# Altium footprint library LCD_LCD2X16.PcbLib: 1 footprints
Each footprint in its own frame and in the unit in brackets; x right, y up, seen from the top. Pads: shape width x height; smd on the part's side, far side on the other; paste and mask are expansions set on the pad; w line width, h text height; cw(c..) or ccw(c..) is an arc to the next point about the centre after c.
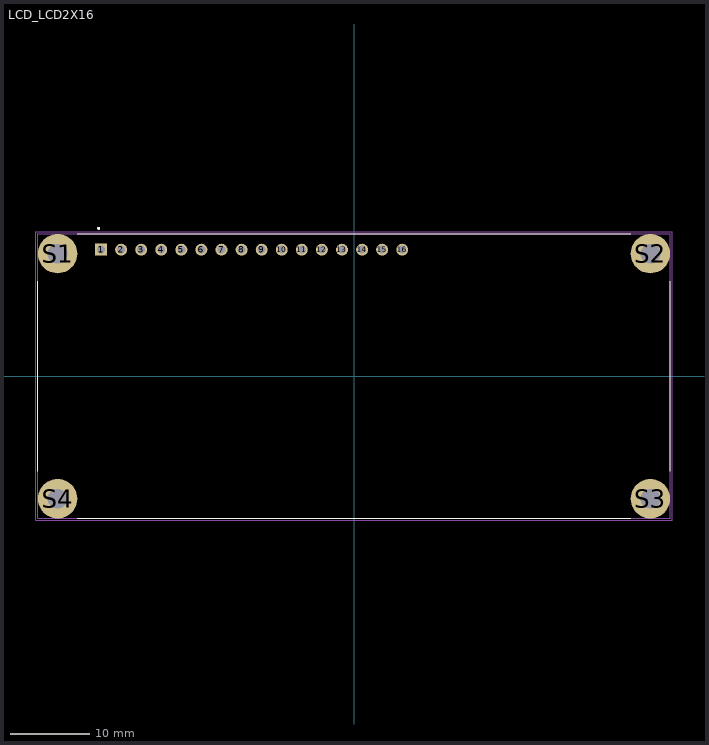
[diagram p0: the footprint, top view; thin cyan lines are the x and y axes]

## LCD_LCD2X16 [mm]
pads (20):
  rect 1.508x1.508 hole 1: 1(-32,16)
  round 1.508 hole 1: 2(-29.46,16) 3(-26.92,16) 4(-24.38,16) 5(-21.84,16) 6(-19.3,16) 7(-16.76,16) 8(-14.22,16) 9(-11.68,16) 10(-9.14,16) 11(-6.6,16) 12(-4.06,16) 13(-1.52,16) 14(1.02,16) 15(3.56,16) 16(6.1,16)
  round 5 hole 2.5: S1(-37.5,15.5) S2(37.5,15.5) S3(37.5,-15.5) S4(-37.5,-15.5)
Top Overlay:
  circle w0.2: c-32.3,18.7 r0.1
  lines w0.127: -40,-12 -40,12 ; -35,-18 35,-18 ; -35,18 35,18 ; 40,-12 40,12
Mechanical 13:
  circle w0.2: c-32.3,18.7 r0.1
  lines w0.127: -40,-18 -40,18 40,18 40,-18 -40,-18
Mechanical 15:
  lines w0.05: -40.25,-18.25 40.25,-18.25 40.25,18.25 -40.25,18.25 -40.25,-18.25